# EAGLE library part 1PEEK14 (library con-odu_med)
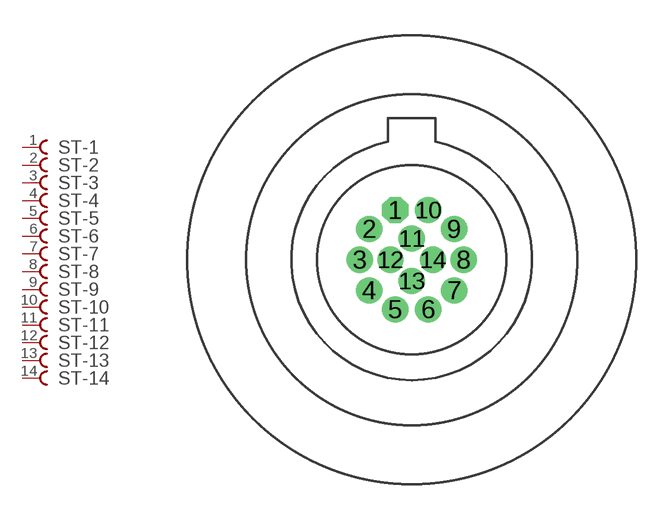
[diagram p5: symbol with the pads of 1PEEK14; footprint 1PEEK14]

Designator prefix ST; gates -1=KONTAKT -2=KONTAKT -3=KONTAKT -4=KONTAKT -5=KONTAKT -6=KONTAKT -7=KONTAKT -8=KONTAKT -9=KONTAKT -10=KONTAKT -11=KONTAKT -12=KONTAKT -13=KONTAKT -14=KONTAKT

## 1PEEK14  [1PEEK14]
1  -1:P$1  pas
2  -2:P$1  pas
3  -3:P$1  pas
4  -4:P$1  pas
5  -5:P$1  pas
6  -6:P$1  pas
7  -7:P$1  pas
8  -8:P$1  pas
9  -9:P$1  pas
10  -10:P$1  pas
11  -11:P$1  pas
12  -12:P$1  pas
13  -13:P$1  pas
14  -14:P$1  pas

## Footprint 1PEEK14 (pad centres in mm)
drill 0.6 octagon: 1 -0.7,2.1
drill 0.6: 2 -1.8,1.3; 3 -2.2,0; 4 -1.8,-1.3; 5 -0.7,-2.1; 6 0.7,-2.1; 7 1.8,-1.3; 8 2.2,0; 9 1.8,1.3; 10 0.7,2.1; 11 0,0.9; 12 -0.9,0; 13 0,-0.9; 14 0.9,0